# EAGLE library part NB7VQ14MMNHTBG (library NB7VQ14MMNHTBG)
NB7VQ14MMNHTBG, Clock Generator CML, LVDS, LVPECL CML, 16-Pin QFN Source: Datasheet <http://www.onsemi.com/pub/Collateral/NB7VQ14M-D.PDF>
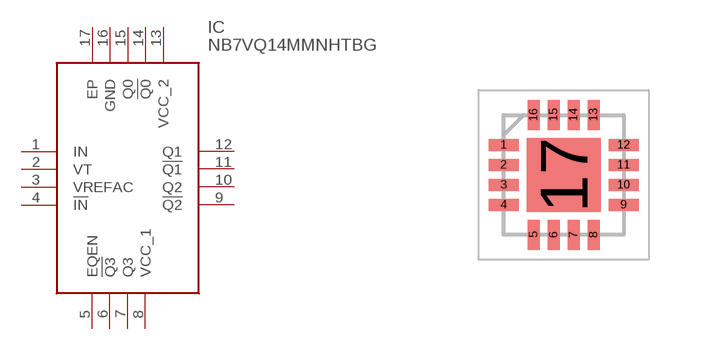
[diagram p0: symbol with the pads of QFN50P300X300X100-17N; footprint QFN50P300X300X100-17N]

Designator prefix IC

## NB7VQ14MMNHTBG (Arrow_Part_Number: NB7VQ14MMNHTBG; Arrow_Price-Stock: https://www.arrow.com/en/products/nb7vq14mmnhtbg/on-semiconductor?utm_currency=USD&region=nac; Description: NB7VQ14MMNHTBG, Clock Generator CML, LVDS, LVPECL CML, 16-Pin QFN; Height: 1mm; Manufacturer_Name: onsemi; Manufacturer_Part_Number: NB7VQ14MMNHTBG; Mouser_Part_Number: 863-NB7VQ14MMNHTBG; Mouser_Price-Stock: https://www.mouser.co.uk/ProductDetail/onsemi/NB7VQ14MMNHTBG?qs=3PKVEWFFm2%2FWq%2FFZ4xstfg%3D%3D)  [QFN50P300X300X100-17N]
1  IN
2  VT
3  VREFAC
4  !IN
5  EQEN
6  !Q3
7  Q3
8  VCC_1
9  !Q2
10  Q2
11  !Q1
12  Q1
13  VCC_2
14  !Q0
15  Q0
16  GND
17  EP

## Footprint QFN50P300X300X100-17N (pad centres in mm)
QFN16 3x3, 0.5P
smd 0.75 x 0.3: 1 -1.5,0.75; 2 -1.5,0.25; 3 -1.5,-0.25; 4 -1.5,-0.75; 9 1.5,-0.75; 10 1.5,-0.25; 11 1.5,0.25; 12 1.5,0.75
smd 0.3 x 0.75: 5 -0.75,-1.5; 6 -0.25,-1.5; 7 0.25,-1.5; 8 0.75,-1.5; 13 0.75,1.5; 14 0.25,1.5; 15 -0.25,1.5; 16 -0.75,1.5
smd 1.85 x 1.85: 17 0,0